# EAGLE library part MHS122K (library switches)
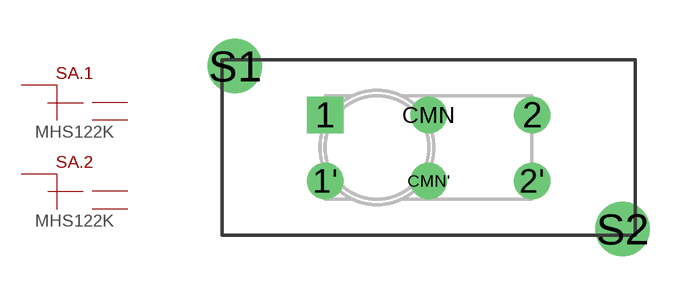
[diagram p6: symbol with the pads of APEM-MHS122K; footprint APEM-MHS122K]

Designator prefix SA; gates .1=SWITCH-2POS .2=SWITCH-2POS

## MHS122K (MOUSER: 642-MHS122K)  [APEM-MHS122K]
1  .1:1  pas
1'  .2:1  pas
2  .1:2  pas
2'  .2:2  pas
CMN  .1:CM  pas
CMN'  .2:CM  pas

## Footprint APEM-MHS122K (pad centres in mm)
drill 0.9 square: 1 -4,1.25
drill 0.9: 1' -4,-1.29; 2 4,1.25; 2' 4,-1.29; CMN 0,1.25; CMN' 0,-1.29
drill 1.4: S1 -7.5,3.15; S2 7.5,-3.15